# Altium schematic symbol library 142-0781-821.SchLib: 1 symbol
Pins are listed as number, name and electrical type; pins without a type are passive.

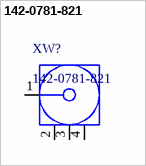
[diagram p0: symbol 142-0781-821]

## 142-0781-821
designator XW?
High Frequency End Launch | SMA Bulkhead Jack Assembly | Edge Mount | 15 MIL Pin | .425" Thread Length; Manufacturer: EmersonConnectivitySolutions; Connector Type: JackPCB; Gender: Jack(Female); Impedance: 50Ohms; Brand: Johnson/EmersonConnectivitySolutions; Body Material: Brass; Body Style: Straight; Maximum Frequency: 26GHz; Factory Pack Quantity: 5; Datasheet URL: https://belfuse.com/resources/Johnson/productinformation/pi-142-0701-801.pdf; Datasheet Version: 12/2014; Operating Temperature: -65Cto+165C; Mounting Technology: SurfaceMount; RF Series: SMA; Part Number: 142-0781-821; Product Category: RFConnectors/CoaxialConnectors; Termination Style: Solder; RoHS: Details; Package URL: https://belfuse.com/resources/Johnson/drawings/dr-1420701801.pdf; Series: SMA; Device Package: 4-Pin Surface Mount Device, Body 14.275 x 9.525 mm; Manufacturer URL: http://www.cinch.com/; Contact Plating: Gold; Product: Connectors; Orientation: Straight
footprint CINC-142-0781-821_V (High Frequency End Launch, SMA Bulkhead Jack Assembly, Edge Mount)
pins: 1, 2, 3, 4